# EAGLE library part SPARKFUN_HIH6130 (library Puffin)
SparkFun HIH6130 Breakout Board
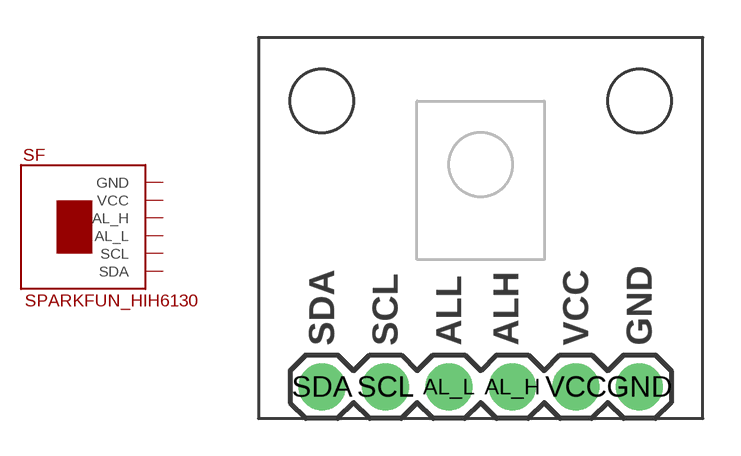
[diagram p3: symbol with the pads of SPARKFUN_HIH6130; footprint SPARKFUN_HIH6130]

Designator prefix SF

## SPARKFUN_HIH6130  [SPARKFUN_HIH6130]
AL_H  AL_H
AL_L  AL_L
GND  GND  sup
SCL  SCL
SDA  SDA
VCC  VCC  sup

## Footprint SPARKFUN_HIH6130 (pad centres in mm)
drill 1.016 pad 1.88: AL_H 1.27,0; AL_L -1.27,0; GND 6.35,0; SCL -3.81,0; SDA -6.35,0; VCC 3.81,0